# Altium schematic symbol library SRV05-4.TCT.Schlib: 1 symbol
Pins are listed as number, name and electrical type; pins without a type are passive.

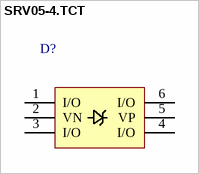
[diagram p0: symbol SRV05-4.TCT]

## SRV05-4.TCT
designator D?
Low Capacitance TVS Diode Array
pins: 1 I/O, 2 VN, 3 I/O, 4 I/O, 5 VP, 6 I/O